# Altium footprint library MS920SE-FL27E.PcbLib: 1 footprints
Each footprint in its own frame and in the unit in brackets; x right, y up, seen from the top. Pads: shape width x height; smd on the part's side, far side on the other; paste and mask are expansions set on the pad; w line width, h text height; cw(c..) or ccw(c..) is an arc to the next point about the centre after c.
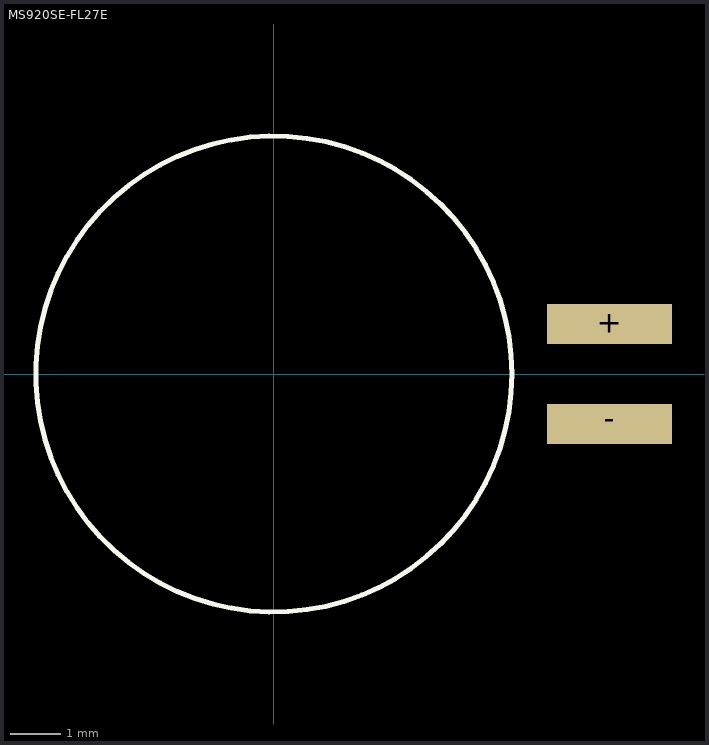
[diagram p0: the footprint, top view; thin cyan lines are the x and y axes]

## MS920SE-FL27E [mm]
pads (2):
  rect 2.5x0.8 smd: +(6.7,1) -(6.7,-1)
Top Overlay:
  circle w0.1: c0,0 r4.75
3D body: height 2.7, standoff 0, extent -4.7,-4.7 4.663,4.681